# Altium integrated library 1051330001.IntLib: 1 symbol
Pins are listed as number, name and electrical type; pins without a type are passive.

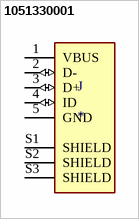
[diagram p0: symbol 1051330001]

## 1051330001
designator J
USB Connectors MICRO USB B RECPT VERTICAL; MP: 105133-0001; MF: Molex; Availability: Unavailable; SnapEDA_Link: https://www.snapeda.com/parts/105133-0001/Molex/view-part/4775133/?ref=snap; Price: None; Package: None; Value: *
footprint MOLEX_1051330001
pins: 1 VBUS (power), 2 D- (io), 3 D+ (io), 4 ID (io), 5 GND (power), S1 SHIELD, S2 SHIELD, S3 SHIELD